# EAGLE library part ADMU1201 (library serial_interfaces)
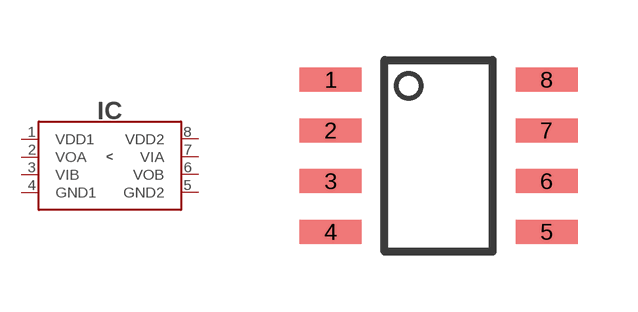
[diagram p37: symbol with the pads of SOIC8; footprint SOIC8]

Designator prefix IC

## ADMU1201SOIC-8 (MANF: Analog Devices Inc; MANF#: ADUM1201ARZ-RL7)  [SOIC8]
1  VDD1
2  VOA
3  VIB
4  GND1
5  GND2
6  VOB
7  VIA
8  VDD2

## Footprint SOIC8 (pad centres in mm)
https://www.ti.com/lit/ds/snvsaq5a/snvsaq5a.pdf?ts=1602424164509
smd 1.55 x 0.6: 1 -2.7,1.905; 2 -2.7,0.635; 3 -2.7,-0.635; 4 -2.7,-1.905; 5 2.7,-1.905; 6 2.7,-0.635; 7 2.7,0.635; 8 2.7,1.905